# Altium footprint library Mechanical.PcbLib: 13 footprints
Each footprint in its own frame and in the unit in brackets; x right, y up, seen from the top. Pads: shape width x height; smd on the part's side, far side on the other; paste and mask are expansions set on the pad; w line width, h text height; cw(c..) or ccw(c..) is an arc to the next point about the centre after c.
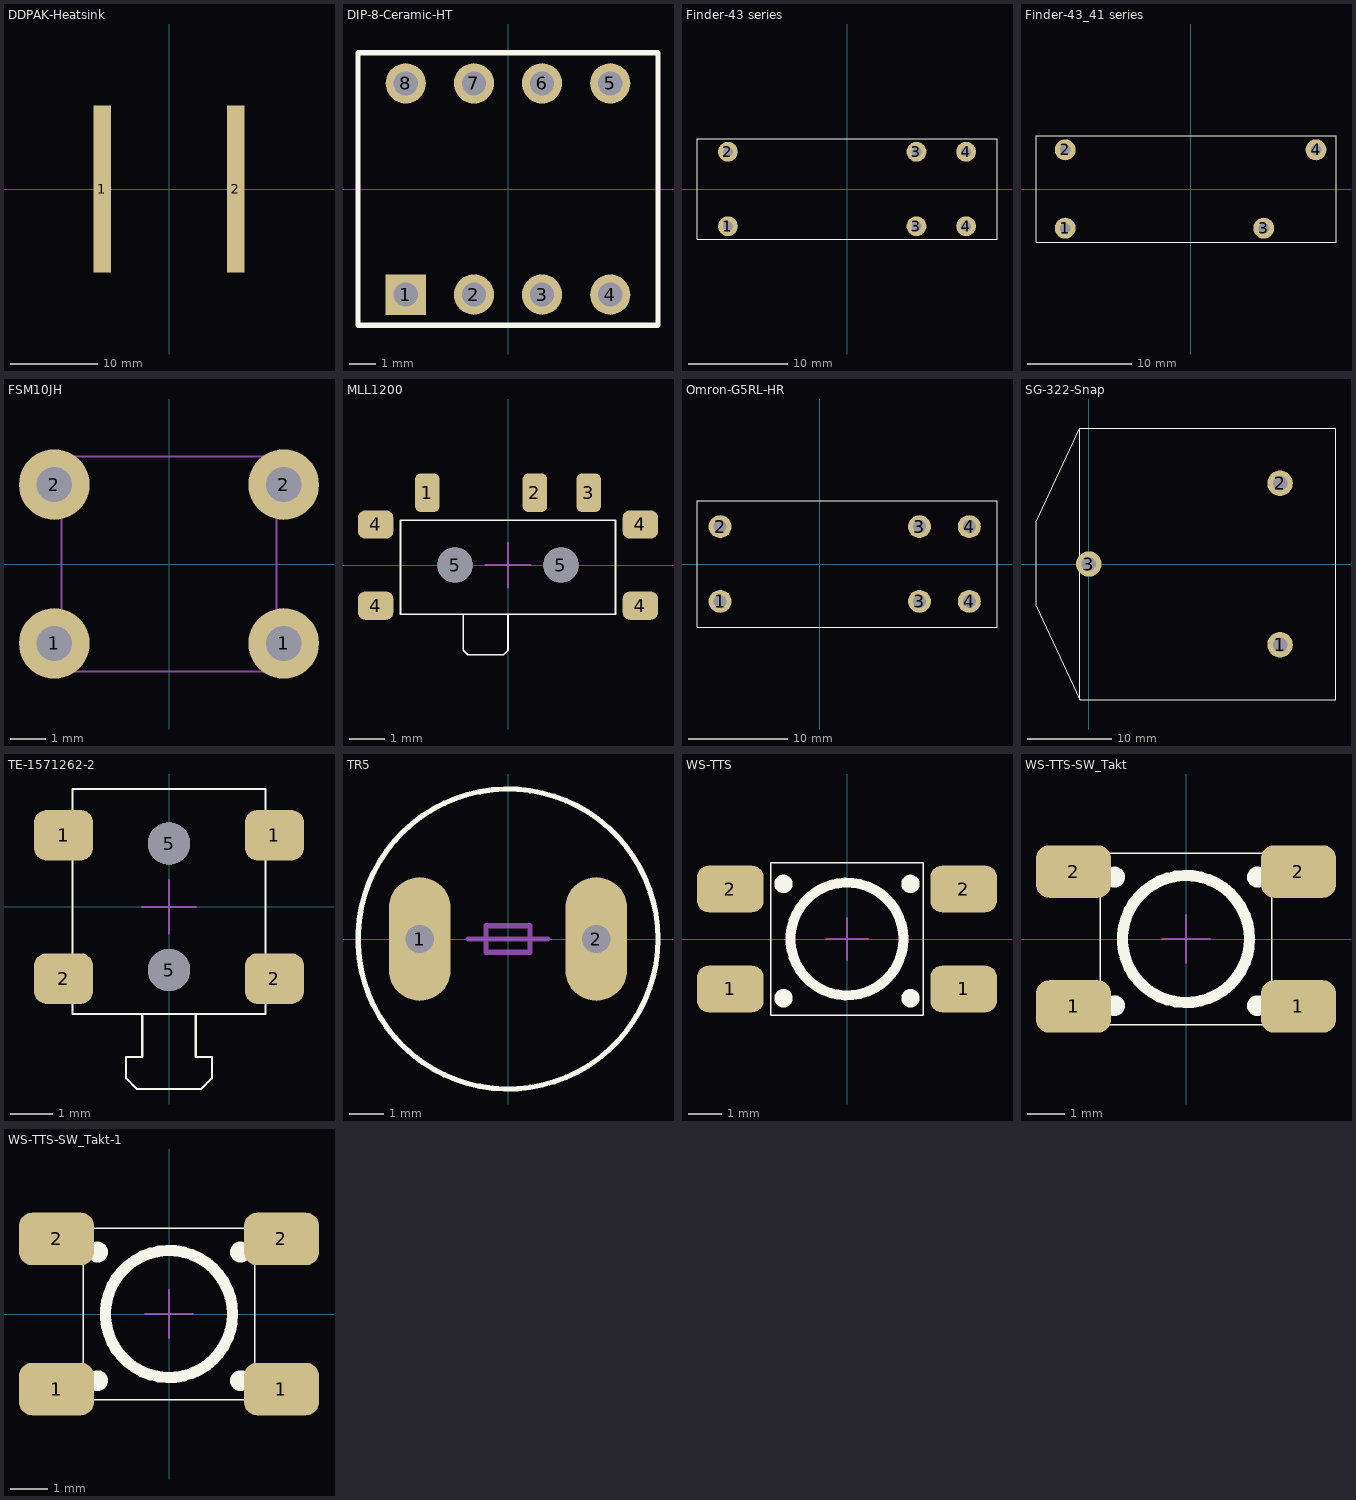
[diagram p0: the footprints below, top view; thin cyan lines are the x and y axes]

## DDPAK-Heatsink [mm] "DDPAK-Heatsink, SMD"
height 9.5
pads (2):
  rect 2x19 smd: 1(-7.6,0) 2(7.6,0)
3D body: height 9, standoff 8, extent -8.001,-9.525 8.001,9.525
3D body: height 9, standoff 0, extent 7.239,-9.525 8.001,9.525
3D body: height 9, standoff 0, extent -8.001,-9.525 -7.239,9.525

## DIP-8-Ceramic-HT [mm] "DIP; 8 Leads; Row Spacing 7.62 mm; Pitch 2.54 mm"
height 5.08
pads (8):
  rect 1.5x1.5 hole 0.9: 1(-3.81,-3.935)
  round 1.5 hole 0.9: 2(-1.27,-3.935) 3(1.27,-3.935) 4(3.81,-3.935) 5(3.81,3.935) 6(1.27,3.935) 7(-1.27,3.935) 8(-3.81,3.935)
Top Overlay:
  lines w0.2: -5.588,-5.08 -5.588,5.08 5.588,5.08 5.588,-5.08 -5.588,-5.08
3D body "STEP-418127270904-rev1-DIP.stp": height 4.65, standoff -2.95, extent -5.55,-3.985 5.55,3.885

## Finder-43 series [mm] "Finder 43 series relay"
height 15
pads (6):
  round 2 hole 1: 1(-12,-3.75) 2(-12,3.75) 3(7,-3.75) 3(7,3.75) 4(12,-3.75) 4(12,3.75)
Top Overlay:
  lines w0.05: -15.113,-5.08 15.113,-5.08 15.113,5.08 -15.113,5.08 -15.113,-5.08
3D body "4361-0300.stp": height 14.57, standoff -3.63, extent -14.669,-5 13.731,5

## Finder-43_41 series [mm] "Finder 43 series relay"
height 15
pads (4):
  round 2 hole 1: 1(-12,-3.75) 2(-12,3.75) 3(7,-3.75) 4(12,3.75)
Top Overlay:
  lines w0.05: -14.794,-5.08 -14.794,5.08 13.908,5.08 13.908,-5.08 -14.794,-5.08
3D body "4341-0300.stp": height 14.43, standoff -3.77, extent -14.732,-5 13.668,5

## FSM10JH [mm]
pads (4):
  round 2 hole 1: 1(-3.25,-2.25) 1(3.25,-2.25) 2(-3.25,2.25) 2(3.25,2.25)
Mechanical 1:
  lines w0.05: -3.048,-3.048 3.048,-3.048 3.048,3.048 -3.048,3.048 -3.048,-3.048
3D body: height 5.6, standoff 3.6, extent -1.736,-1.746 1.75,1.747
3D body: height 3.6, standoff 0, extent -3.048,-3.048 3.048,3.048

## MLL1200 [mm] "SMD switch"
pads (9):
  rrect50% 0.7x1.1 smd: 1(-2.286,2.05) 2(0.762,2.05) 3(2.286,2.05)
  rrect50% 1x0.8 smd: 4(-3.75,-1.15) 4(-3.75,1.15) 4(3.75,-1.15) 4(3.75,1.15)
  round 1 hole 1 unplated: 5(-1.5,0) 5(1.5,0)
Top Overlay:
  lines w0.05: -1.27,-1.397 -1.27,-2.413 -1.143,-2.54 -0.127,-2.54 0,-2.413 0,-1.397 ; -3.048,-1.397 3.048,-1.397 3.048,1.27 -3.048,1.27 -3.048,-1.397
Mechanical 15:
  lines w0.05: -0.635,0 0.635,0 ; 0,-0.635 0,0.635
3D body "MLL1200-3d.stp": height 1.4, standoff -0.5, extent -3.85,-2.57 3.85,2.23

## Omron-G5RL-HR [mm] "Omron-G5RL-HR series relay"
height 15
pads (6):
  round 2.3 hole 1.3: 1(-10,-3.75) 2(-10,3.75) 3(10,-3.75) 3(10,3.75) 4(15,-3.75) 4(15,3.75)
Top Overlay:
  lines w0.05: -12.319,-6.35 17.78,-6.35 17.78,6.35 -12.319,6.35 -12.319,-6.35
3D body "g5rl-1a-e-hr_5dc.stp": height 15.9, standoff -3.3, extent -12.319,-6.35 16.681,6.35

## SG-322-Snap [mm] "Snap for Strapubox SG-322B, THT"
height 15
pads (3):
  round 3 hole 1.7: 1(22.5,-9.5) 2(22.5,9.5) 3(0,0)
Top Overlay:
  lines w0.1: -1.069,-16.002 -6.223,-5 -6.223,5 -1.069,16.002 ; -1.069,-16.002 -1.069,16.002 ; -1.069,-16.002 29.083,-16.002 29.083,16.002 -1.069,16.002
3D body "SNAP AB.STEP": height 36.5, standoff -3.5, extent -12.522,-16 32.478,16

## TE-1571262-2 [mm] "SMD switch"
pads (6):
  rrect50% 1.4x1.2 smd: 1(-2.5,1.7) 1(2.5,1.7) 2(-2.5,-1.7) 2(2.5,-1.7)
  round 1 hole 1 unplated: 5(0,-1.5) 5(0,1.5)
Top Overlay:
  lines w0.05: -0.635,-2.54 -0.635,-3.556 -1.016,-3.556 -1.016,-4.064 -0.762,-4.318 0.762,-4.318 1.016,-4.064 1.016,-3.556 0.635,-3.556 0.635,-2.54 ; -2.286,-2.54 2.286,-2.54 2.286,2.794 -2.286,2.794 -2.286,-2.54
Mechanical 15:
  lines w0.05: -0.635,0 0.635,0 ; 0,-0.635 0,0.635
3D body "1571262-2-c-3d.stp": height 1.75, standoff 0.05, extent -2.667,-4.337 2.733,2.813

## TR5 [mil] "TR5"
pads (2):
  oval 70x140 hole 32: 1(-100,0) 2(100,0)
Top Overlay:
  circle w6: c0,0 r170
Mechanical 16:
  lines w6: -45,0 45,0 ; -25,-15 25,-15 25,15 -25,15 -25,-15
3D body: height 342.52, standoff 39.37, extent -157.09,-163.06 168.39,163.06

## WS-TTS [mm] "WE, button, SMD"
pads (4):
  rrect50% 2x1.4 smd: 1(-3.5,-1.5) 1(3.5,-1.5) 2(-3.5,1.5) 2(3.5,1.5)
Top Overlay:
  circle w0.3: c1.905,-1.778 r0.127
  circle w0.3: c-1.905,-1.778 r0.127
  circle w0.3: c1.905,1.651 r0.127
  circle w0.3: c-1.905,1.651 r0.127
  circle w0.3: c0,0 r1.694
  lines w0.05: -2.286,-2.286 2.286,-2.286 2.286,2.286 -2.286,2.286 -2.286,-2.286
Mechanical 15:
  lines w0.05: -0.635,0 0.635,0 ; 0,-0.635 0,0.635
3D body "430181038816.stp": height 3.8, standoff 0, extent -3.75,-2.25 3.75,2.25

## WS-TTS-SW_Takt [mm] "431181015816"
pads (4):
  rrect50% 2x1.4 smd: 1(-3,-1.8) 1(3,-1.8) 2(-3,1.8) 2(3,1.8)
Top Overlay:
  circle w0.3: c1.905,-1.778 r0.127
  circle w0.3: c-1.905,-1.778 r0.127
  circle w0.3: c1.905,1.651 r0.127
  circle w0.3: c-1.905,1.651 r0.127
  circle w0.3: c0,0 r1.694
  lines w0.05: -2.286,-2.286 2.286,-2.286 2.286,2.286 -2.286,2.286 -2.286,-2.286
Mechanical 15:
  lines w0.05: -0.635,0 0.635,0 ; 0,-0.635 0,0.635
3D body "431181015816.stp": height 1.5, standoff 0, extent -3.1,-2.5 3.1,2.5

## WS-TTS-SW_Takt-1 [mm] "430483025816"
pads (4):
  rrect50% 2x1.4 smd: 1(-3,-2) 1(3,-2) 2(-3,2) 2(3,2)
Top Overlay:
  circle w0.3: c1.905,-1.778 r0.127
  circle w0.3: c-1.905,-1.778 r0.127
  circle w0.3: c1.905,1.651 r0.127
  circle w0.3: c-1.905,1.651 r0.127
  circle w0.3: c0,0 r1.694
  lines w0.05: -2.286,-2.286 2.286,-2.286 2.286,2.286 -2.286,2.286 -2.286,-2.286
Mechanical 15:
  lines w0.05: -0.635,0 0.635,0 ; 0,-0.635 0,0.635
3D body "430483025816.stp": height 2.5, standoff 0, extent -3.6,-3.1 3.6,3.1